# Altium schematic symbol library AB0014.01.A.1.SchLib: 1 symbol
Pins are listed as number, name and electrical type; pins without a type are passive.

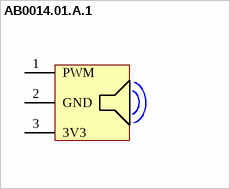
[diagram p0: symbol AB0014.01.A.1]

## AB0014.01.A.1
designator M?
pins: 1 PWM (power), 2 GND (power), 3 3V3 (power)